# Altium footprint library RCLD.PcbLib: 18 footprints (part 1 of 2)
Each footprint in its own frame and in the unit in brackets; x right, y up, seen from the top. Pads: shape width x height; smd on the part's side, far side on the other; paste and mask are expansions set on the pad; w line width, h text height; cw(c..) or ccw(c..) is an arc to the next point about the centre after c.
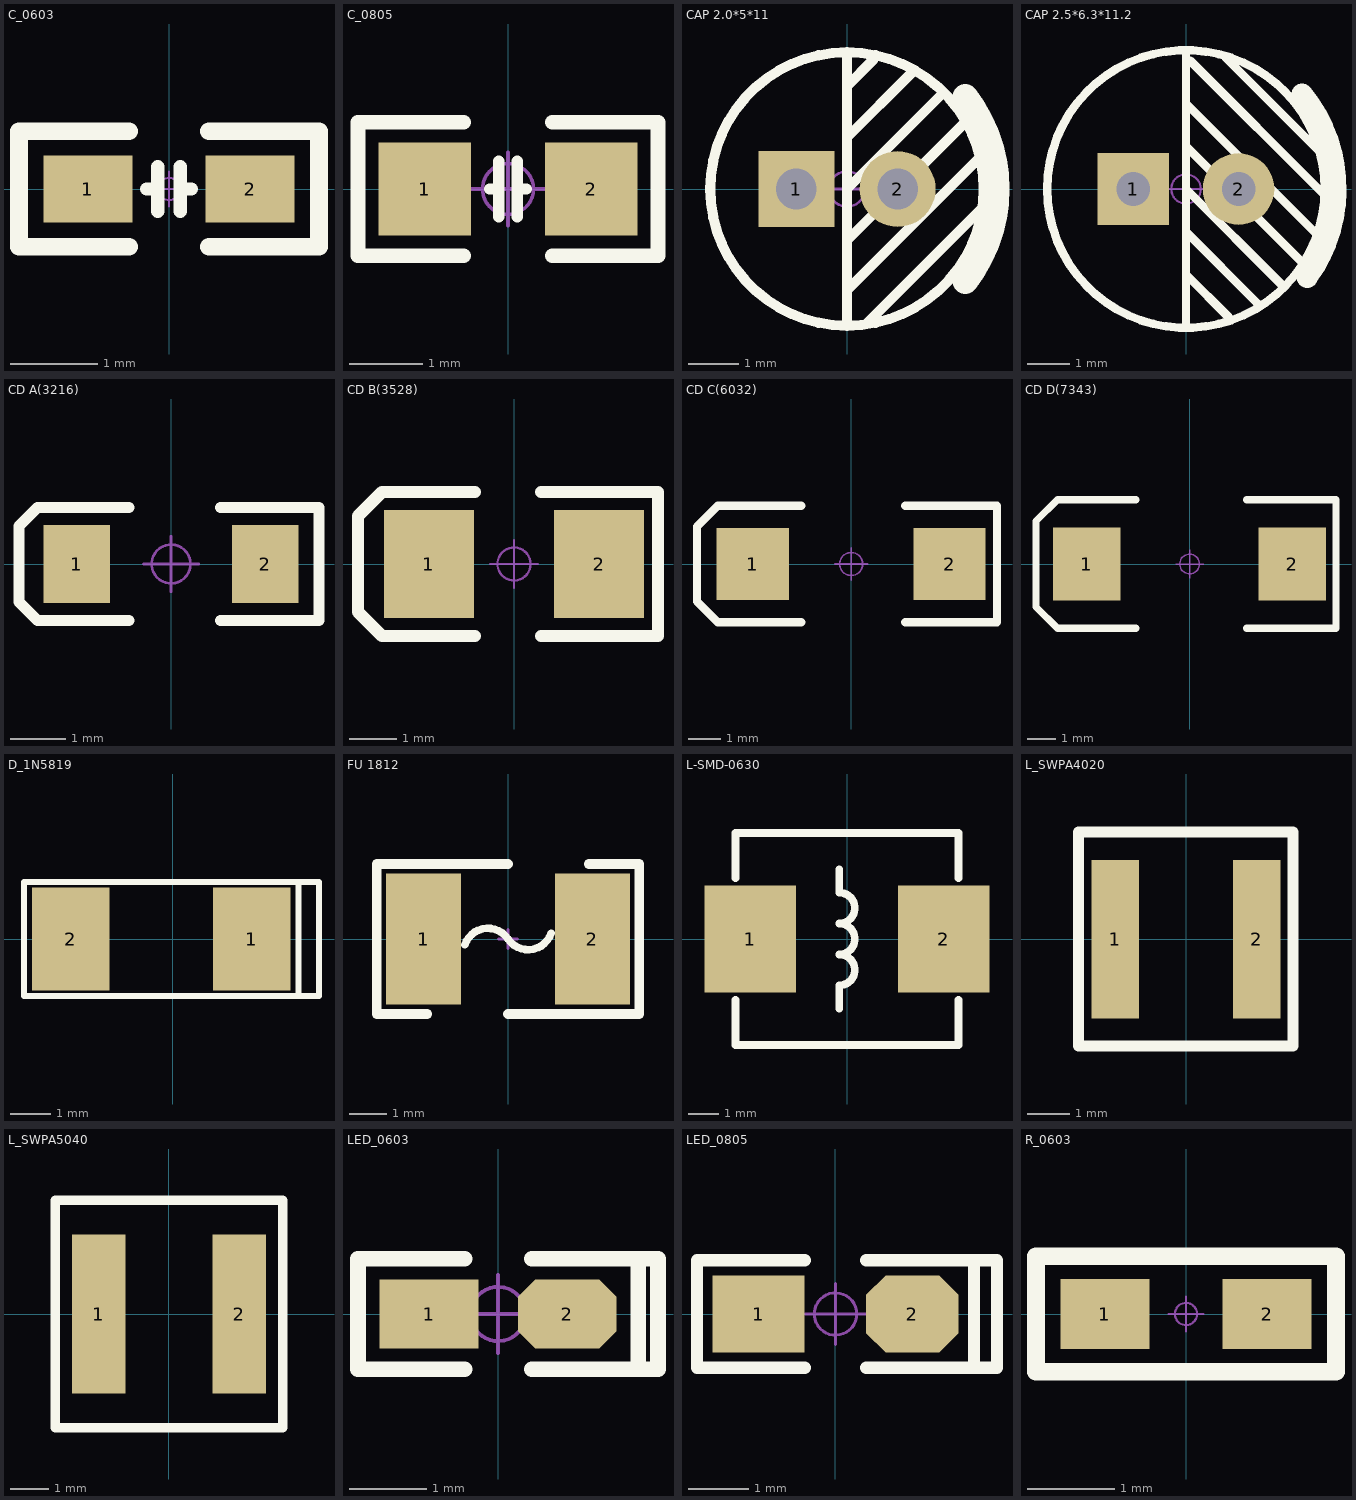
[diagram p0: the footprints below, top view; thin cyan lines are the x and y axes]

## C_0603 [mil]
pads (2):
  rect 40x30 smd: 1(-36.5,0) 2(36.5,0)
Top Overlay:
  lines w6: -10,0 -5,0 ; -5,-10 -5,10 ; 5,-10 5,10 ; 5,0 10,0
  lines w8: -18,-26 -67.5,-26 -67.5,26 -18,26 ; 18,-26 67.5,-26 67.5,26 18,26
Mechanical 15:
  circle w1: c0,0 r5
  lines w1: -7.87,0 7.87,0 ; 0,-7.87 0,7.87
3D body "C 0603.STEP": height 31.89, standoff -0.39, extent -31.5,-16.14 31.5,16.14

## C_0805 [mil]
pads (2):
  rect 50x50 smd: 1(-45,0) 2(45,0)
Top Overlay:
  lines w6: -10,0 -5,0 ; -5,-15 -5,15 ; 5,-15 5,15 ; 5,0 10,0
  lines w8: -24,-36 -81,-36 -81,36 -24,36 ; 24,-36 81,-36 81,36 24,36
Mechanical 15:
  circle w1.97: c0,0 r13.78
  lines w1.97: -19.68,0 19.68,0 ; 0,-19.68 0,19.68
3D body "C 0805.STEP": height 20.08, standoff -0.39, extent -39.37,-24.02 39.37,24.02

## CAP 2.0*5*11 [mm] "脚距2mm直径5mm高度11mm                 淘宝ID:黄晶宝石"
pads (2):
  rect 1.5x1.5 hole 0.8: 1(-1,0)
  round 1.5 hole 0.8: 2(1,0)
Top Overlay:
  circle w0.2: c0,0 r2.7
  lines w0.2: 0,-2.667 0,-2 ; 0,-1.016 2.286,1.27 ; 0,0 1.905,1.905 ; 0,1.016 1.27,2.286 ; 0,2.032 0.508,2.54 ; 0,2.667 0,-2 ; 0.381,-2.667 2.667,-0.381 ; 2.651,0.651 0,-2
  lines w0.5: 2.338,-1.819 ccw(c0,0) 2.338,1.819
Mechanical 15:
  circle w0.05: c0,0 r0.35
  lines w0.05: -0.5,0 0.5,0 ; 0,-0.5 0,0.5
3D body "CAP 2X5X11.STEP": height 11.04, standoff -3.42, extent -2.5,-2.499 2.51,2.499

## CAP 2.5*6.3*11.2 [mm] "脚距2.5mm直径6.3mm高度11.2mm"
pads (2):
  rect 1.7x1.7 hole 0.8: 1(-1.25,0)
  round 1.7 hole 0.8: 2(1.25,0)
Top Overlay:
  circle w0.2: c0,0 r3.3
  lines w0.2: 0,-3.226 0,3.277 ; 0,-2.032 1.016,-3.048 ; 0,-1.016 1.727,-2.743 ; 0,0 2.299,-2.299 ; 0,1.016 2.769,-1.753 2.87,-1.753 ; 0,2.032 3.099,-1.067 ; 0,3.048 0.102,3.048 3.302,-0.152 ; 0.927,3.137 3.124,0.94 3.2,0.94
  lines w0.504: 2.759,2.258 cw(c0,0) 2.883,-2.097
Mechanical 15:
  circle w0.05: c0,0 r0.35
  lines w0.05: -0.5,0 0.5,0 ; 0,-0.5 0,0.5
3D body "CAP 2.5X6.3X11.2.STEP": height 11.23, standoff -3.38, extent -3.15,-3.15 3.16,3.15

## CD A(3216) [mm] "长3.2mm，宽1.6mm，厚1.6mm      淘宝ID:黄晶宝石"
pads (2):
  rect 1.2x1.4 smd: 1(-1.7,0) 2(1.7,0)
Top Overlay:
  lines w0.2: -0.762,-1.016 -2.413,-1.016 -2.743,-0.686 -2.743,0.686 -2.413,1.016 -0.762,1.016 ; 0.889,-1.016 2.667,-1.016 2.667,1.016 0.889,1.016
Mechanical 15:
  circle w0.05: c0,0 r0.35
  lines w0.05: -0.5,0 0.5,0 ; 0,-0.5 0,0.5
3D body "CD A(3216).STEP": height 1.6, standoff -0.01, extent -1.6,-0.8 1.6,0.8

## CD B(3528) [mil] "长3.5mm，宽2.8mm，厚1.9mm"
pads (2):
  rect 75x90 smd: 1(-70.87,-0.01) 2(70.86,-0.01)
Top Overlay:
  lines w10: -32.51,-60 -110,-60 -130,-40 -130,40 -110,60 -32.51,60 ; 22.49,-60 120,-60 120,60 22.49,60
Mechanical 15:
  circle w1.97: c0,0 r13.78
  lines w1.97: -19.68,0 19.68,0 ; 0,-19.68 0,19.68
3D body "CD B(3528).STEP": height 74.84, standoff -0.3, extent -68.92,-55.12 68.91,55.11

## CD C(6032) [mm] "长6.0mm，宽3.2mm，厚2.5mm"
pads (2):
  rect 2.2x2.2 smd: 1(-3,0) 2(3,0)
Top Overlay:
  lines w0.254: -1.524,-1.778 -4.064,-1.778 -4.699,-1.143 -4.699,1.143 -4.064,1.778 -1.524,1.778 ; 1.651,-1.778 4.445,-1.778 4.445,1.778 1.651,1.778
Mechanical 15:
  circle w0.05: c0,0 r0.35
  lines w0.05: -0.5,0 0.5,0 ; 0,-0.5 0,0.5
3D body "CD C(6032).STEP": height 2.5, standoff -0.01, extent -3,-1.6 3,1.6

## CD D(7343) [mm] "长7.3mm，宽4.3mm，厚2.8mm"
pads (2):
  rect 2.4x2.6 smd: 1(-3.65,0) 2(3.65,0)
Top Overlay:
  lines w0.254: -1.905,-2.286 -4.699,-2.286 -5.461,-1.524 -5.461,1.524 -4.699,2.286 -1.905,2.286 ; 2.032,-2.286 5.207,-2.286 5.207,2.286 2.032,2.286
Mechanical 15:
  circle w0.05: c0,0 r0.35
  lines w0.05: -0.5,0 0.5,0 ; 0,-0.5 0,0.5
3D body "CD D(7343H).STEP": height 2.8, standoff -0.01, extent -3.65,-2.15 3.65,2.15

## D_1N5819 [mm]
pads (2):
  rect 1.905x2.54 smd: 1(1.945,0) 2(-2.5,0)
Top Overlay:
  lines w0.15: 3.088,-1.397 3.088,1.397 ; -3.643,-1.397 -3.643,1.397 3.596,1.397 3.596,-1.397 -3.643,-1.397
3D body "User Library-DO-214AC SMA.step": height 2.4, standoff 0, extent -2.877,-1.3 2.322,1.3

## FU 1812 [mm] "贴片保险丝-1812"
pads (2):
  rect 2x3.5 smd: 1(-2.25,0) 2(2.25,0)
Top Overlay:
  lines w0.203: -1.15,-0.156 cw(c-0.537,-0.362) 0,0 ccw(c0.537,0.362) 1.15,0.156
  lines w0.254: -2.159,-2 -3.5,-2 -3.5,2 0,2 ; 0,-2 3.5,-2 3.5,2 2.159,2
Mechanical 15:
  lines w0.076: -0.254,0 0.254,0 ; 0,-0.254 0,0.254
3D body "FU 01812.STEP": height 0.87, standoff 0, extent -2.3,-1.61 2.3,1.61

## L-SMD-0630 [mm] "一体化成型电感"
pads (2):
  rect 3x3.5 smd: 1(-3.175,0) 2(3.175,0)
Top Overlay:
  lines w0.254: -3.658,-2.007 -3.658,-3.48 3.658,-3.48 3.658,-2.007 ; -3.658,2.007 -3.658,3.48 3.658,3.48 3.658,2.007 ; -0.254,-2.286 -0.254,-1.524 ccw(c-0.254,-1.016) -0.254,-0.508 ccw(c-0.254,0) -0.254,0.508 ccw(c-0.254,1.016) -0.254,1.524 -0.254,2.286
3D body "SMD-0630.STEP": height 3.05, standoff 0.02, extent -3.475,-3.3 3.475,3.3

## L_SWPA4020 [mm]
pads (2):
  rect 1.1x3.7 smd: 1(-1.651,0) 2(1.651,0)
Top Overlay:
  lines w0.254: -2.507,-2.493 -2.507,2.507 2.493,2.507 2.493,-2.493 -2.507,-2.493
3D body "4020.STEP": height 2, standoff -0.02, extent -1.737,-2.061 2.263,1.938

## L_SWPA5040 [mm] "轮廓5mm*5mm ，焊盘间距2.3mm"
height 4
pads (2):
  rect 1.4x4.2 smd: 1(-1.85,0) 2(1.85,0)
Top Overlay:
  lines w0.254: -3,-3 -3,3 3,3 3,-3 -3,-3
3D body "5040S.SLDPRT": height 4, standoff -0.02, extent -2.5,-2.5 2.5,2.5

## LED_0603 [mil]
pads (2):
  rect 50x35 smd: 1(-35,0)
  oct 50x35 smd: 2(35,0)
Top Overlay:
  lines w8: -17,-28 -71,-28 -71,-26 -71,28 -70,28 -17,28 ; 17,-28 70,-28 ; 17,28 71,28 81,28 81,-28 71,-28 71,26
Mechanical 15:
  circle w1.97: c0,0 r13.78
  lines w1.97: -19.68,0 19.68,0 ; 0,-19.68 0,19.68
3D body "LED 0603-Y.STEP": height 18.36, standoff -0.16, extent -31.5,-16.04 31.49,15.53
3D body "LED 0603玻璃罩.": height 0, standoff 0, extent 0,0 0,0

## LED_0805 [mil]
pads (2):
  rect 60x50 smd: 1(-50,0)
  oct 60x50 smd: 2(50,0)
Top Overlay:
  lines w8: -20,-35 -90,-35 -90,35 -20,35 ; 20,-35 105,-35 105,35 20,35 ; 90,-35 90,35
Mechanical 15:
  circle w1.97: c0,0 r13.78
  lines w1.97: -19.68,0 19.68,0 ; 0,-19.68 0,19.68
3D body "LED 0805-Y.STEP": height 26.33, standoff -0.16, extent -39.37,-24.65 39.37,24.65
3D body "LED 0805玻璃罩.ST": height 31.69, standoff 12.01, extent -29.49,-24.65 29.49,24.65

## R_0603 [mil]
pads (2):
  rect 40x31.5 smd: 1(-36.5,0) 2(36.5,0)
Top Overlay:
  lines w8: -67.5,-26 67.5,-26 67.5,26 -67.5,26 -67.5,-26
Mechanical 15:
  circle w1: c0,0 r5
  lines w1: -7.87,0 7.87,0 ; 0,-7.87 0,7.87
3D body "R 0603.STEP": height 15.79, standoff -0.13, extent -31.49,-15.74 31.5,15.75